# Altium schematic symbol library WCAP-ATG8.SchLib: 195 symbols (part 3 of 3)
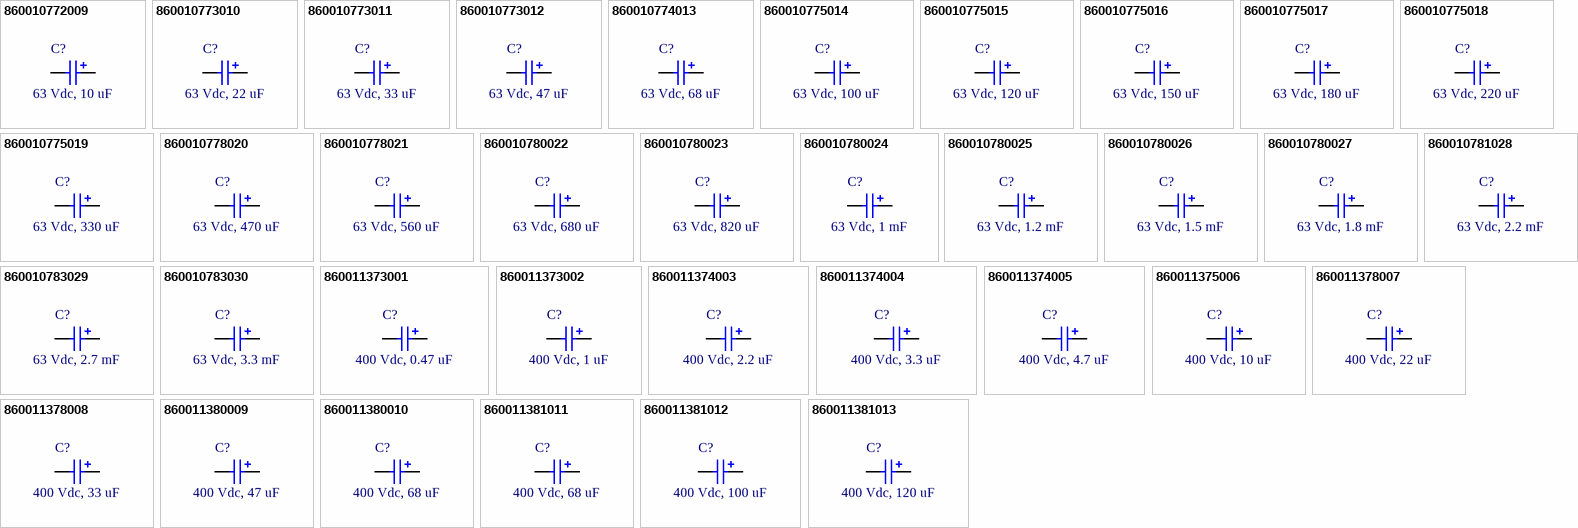
[diagram p6: symbols 860010772009 to 860011381013]

## 860010780023
designator C?, comment 63 Vdc, 820 uF
WCAP-ATG8 Aluminum Electrolytic Capacitors, 16x25mm, 63 Vdc, 820 uF; Part Number: 860010780023; Rated Voltage: 63 Vdc; Value: 820 uF; ComponentLink1Description: Manufacturer; ComponentLink1URL: http://www.we-online.de; ComponentLink2Description: Datasheet; ComponentLink2URL: http://katalog.we-online.de/pbs/datasheet/860010780023.pdf; Published Date: Sep. 2017; Publisher: Wurth Elektronik; Size: 16x25mm; Life Cycle: 2000h; Operating Temperature: -40 °C up to +85 °C
footprint WCAP-ATG8_16x25x7.5
pins: 1 P, 2 N

## 860010780024
designator C?, comment 63 Vdc, 1 mF
WCAP-ATG8 Aluminum Electrolytic Capacitors, 16x25mm, 63 Vdc, 1 mF; Part Number: 860010780024; Rated Voltage: 63 Vdc; Value: 1 mF; ComponentLink1Description: Manufacturer; ComponentLink1URL: http://www.we-online.de; ComponentLink2Description: Datasheet; ComponentLink2URL: http://katalog.we-online.de/pbs/datasheet/860010780024.pdf; Published Date: Sep. 2017; Publisher: Wurth Elektronik; Size: 16x25mm; Life Cycle: 2000h; Operating Temperature: -40 °C up to +85 °C
footprint WCAP-ATG8_16x25x7.5
pins: 1 P, 2 N

## 860010780025
designator C?, comment 63 Vdc, 1.2 mF
WCAP-ATG8 Aluminum Electrolytic Capacitors, 16x31.5mm, 63 Vdc, 1.2 mF; Part Number: 860010780025; Rated Voltage: 63 Vdc; Value: 1.2 mF; ComponentLink1Description: Manufacturer; ComponentLink1URL: http://www.we-online.de; ComponentLink2Description: Datasheet; ComponentLink2URL: http://katalog.we-online.de/pbs/datasheet/860010780025.pdf; Published Date: Sep. 2017; Publisher: Wurth Elektronik; Size: 16x31.5mm; Life Cycle: 2000h; Operating Temperature: -40 °C up to +85 °C
footprint WCAP-ATG8_16x31.5x7.5
pins: 1 P, 2 N

## 860010780026
designator C?, comment 63 Vdc, 1.5 mF
WCAP-ATG8 Aluminum Electrolytic Capacitors, 16x35.5mm, 63 Vdc, 1.5 mF; Part Number: 860010780026; Rated Voltage: 63 Vdc; Value: 1.5 mF; ComponentLink1Description: Manufacturer; ComponentLink1URL: http://www.we-online.de; ComponentLink2Description: Datasheet; ComponentLink2URL: http://katalog.we-online.de/pbs/datasheet/860010780026.pdf; Published Date: Sep. 2017; Publisher: Wurth Elektronik; Size: 16x35.5mm; Life Cycle: 2000h; Operating Temperature: -40 °C up to +85 °C
footprint WCAP-ATG8_16x35.5x7.5
pins: 1 P, 2 N

## 860010780027
designator C?, comment 63 Vdc, 1.8 mF
WCAP-ATG8 Aluminum Electrolytic Capacitors, 16x35.5mm, 63 Vdc, 1.8 mF; Part Number: 860010780027; Rated Voltage: 63 Vdc; Value: 1.8 mF; ComponentLink1Description: Manufacturer; ComponentLink1URL: http://www.we-online.de; ComponentLink2Description: Datasheet; ComponentLink2URL: http://katalog.we-online.de/pbs/datasheet/860010780027.pdf; Published Date: Sep. 2017; Publisher: Wurth Elektronik; Size: 16x35.5mm; Life Cycle: 2000h; Operating Temperature: -40 °C up to +85 °C
footprint WCAP-ATG8_16x35.5x7.5
pins: 1 P, 2 N

## 860010781028
designator C?, comment 63 Vdc, 2.2 mF
WCAP-ATG8 Aluminum Electrolytic Capacitors, 18x35.5mm, 63 Vdc, 2.2 mF; Part Number: 860010781028; Rated Voltage: 63 Vdc; Value: 2.2 mF; ComponentLink1Description: Manufacturer; ComponentLink1URL: http://www.we-online.de; ComponentLink2Description: Datasheet; ComponentLink2URL: http://katalog.we-online.de/pbs/datasheet/860010781028.pdf; Published Date: Sep. 2017; Publisher: Wurth Elektronik; Size: 18x35.5mm; Life Cycle: 2000h; Operating Temperature: -40 °C up to +85 °C
footprint WCAP-ATG8_18x35.5x7.5
pins: 1 P, 2 N

## 860010783029
designator C?, comment 63 Vdc, 2.7 mF
WCAP-ATG8 Aluminum Electrolytic Capacitors, 22x41mm, 63 Vdc, 2.7 mF; Part Number: 860010783029; Rated Voltage: 63 Vdc; Value: 2.7 mF; ComponentLink1Description: Manufacturer; ComponentLink1URL: http://www.we-online.de; ComponentLink2Description: Datasheet; ComponentLink2URL: http://katalog.we-online.de/pbs/datasheet/860010783029.pdf; Published Date: Sep. 2017; Publisher: Wurth Elektronik; Size: 22x41mm; Life Cycle: 2000h; Operating Temperature: -40 °C up to +85 °C
footprint WCAP-ATG8_22x41x10
pins: 1 P, 2 N

## 860010783030
designator C?, comment 63 Vdc, 3.3 mF
WCAP-ATG8 Aluminum Electrolytic Capacitors, 22x41mm, 63 Vdc, 3.3 mF; Part Number: 860010783030; Rated Voltage: 63 Vdc; Value: 3.3 mF; ComponentLink1Description: Manufacturer; ComponentLink1URL: http://www.we-online.de; ComponentLink2Description: Datasheet; ComponentLink2URL: http://katalog.we-online.de/pbs/datasheet/860010783030.pdf; Published Date: Sep. 2017; Publisher: Wurth Elektronik; Size: 22x41mm; Life Cycle: 2000h; Operating Temperature: -40 °C up to +85 °C
footprint WCAP-ATG8_22x41x10
pins: 1 P, 2 N

## 860011373001
designator C?, comment 400 Vdc, 0.47 uF
WCAP-ATG8 Aluminum Electrolytic Capacitors, 6.3x11mm, 400 Vdc, 0.47 uF; Part Number: 860011373001; Rated Voltage: 400 Vdc; Value: 0.47 uF; ComponentLink1Description: Manufacturer; ComponentLink1URL: http://www.we-online.de; ComponentLink2Description: Datasheet; ComponentLink2URL: http://katalog.we-online.de/pbs/datasheet/860011373001.pdf; Published Date: Sep. 2017; Publisher: Wurth Elektronik; Size: 6.3x11mm; Life Cycle: 2000h; Operating Temperature: -25 °C up to +85 °C
footprint WCAP-ATG8_6.3x11x2.5
pins: 1 P, 2 N

## 860011373002
designator C?, comment 400 Vdc, 1 uF
WCAP-ATG8 Aluminum Electrolytic Capacitors, 6.3x11mm, 400 Vdc, 1 uF; Part Number: 860011373002; Rated Voltage: 400 Vdc; Value: 1 uF; ComponentLink1Description: Manufacturer; ComponentLink1URL: http://www.we-online.de; ComponentLink2Description: Datasheet; ComponentLink2URL: http://katalog.we-online.de/pbs/datasheet/860011373002.pdf; Published Date: Sep. 2017; Publisher: Wurth Elektronik; Size: 6.3x11mm; Life Cycle: 2000h; Operating Temperature: -25 °C up to +85 °C
footprint WCAP-ATG8_6.3x11x2.5
pins: 1 P, 2 N

## 860011374003
designator C?, comment 400 Vdc, 2.2 uF
WCAP-ATG8 Aluminum Electrolytic Capacitors, 8x11.5mm, 400 Vdc, 2.2 uF; Part Number: 860011374003; Rated Voltage: 400 Vdc; Value: 2.2 uF; ComponentLink1Description: Manufacturer; ComponentLink1URL: http://www.we-online.de; ComponentLink2Description: Datasheet; ComponentLink2URL: http://katalog.we-online.de/pbs/datasheet/860011374003.pdf; Published Date: Sep. 2017; Publisher: Wurth Elektronik; Size: 8x11.5mm; Life Cycle: 2000h; Operating Temperature: -25 °C up to +85 °C
footprint WCAP-ATG8_8x11.5x3.5
pins: 1 P, 2 N

## 860011374004
designator C?, comment 400 Vdc, 3.3 uF
WCAP-ATG8 Aluminum Electrolytic Capacitors, 8x11.5mm, 400 Vdc, 3.3 uF; Part Number: 860011374004; Rated Voltage: 400 Vdc; Value: 3.3 uF; ComponentLink1Description: Manufacturer; ComponentLink1URL: http://www.we-online.de; ComponentLink2Description: Datasheet; ComponentLink2URL: http://katalog.we-online.de/pbs/datasheet/860011374004.pdf; Published Date: Sep. 2017; Publisher: Wurth Elektronik; Size: 8x11.5mm; Life Cycle: 2000h; Operating Temperature: -25 °C up to +85 °C
footprint WCAP-ATG8_8x11.5x3.5
pins: 1 P, 2 N

## 860011374005
designator C?, comment 400 Vdc, 4.7 uF
WCAP-ATG8 Aluminum Electrolytic Capacitors, 8x11.5mm, 400 Vdc, 4.7 uF; Part Number: 860011374005; Rated Voltage: 400 Vdc; Value: 4.7 uF; ComponentLink1Description: Manufacturer; ComponentLink1URL: http://www.we-online.de; ComponentLink2Description: Datasheet; ComponentLink2URL: http://katalog.we-online.de/pbs/datasheet/860011374005.pdf; Published Date: Sep. 2017; Publisher: Wurth Elektronik; Size: 8x11.5mm; Life Cycle: 2000h; Operating Temperature: -25 °C up to +85 °C
footprint WCAP-ATG8_8x11.5x3.5
pins: 1 P, 2 N

## 860011375006
designator C?, comment 400 Vdc, 10 uF
WCAP-ATG8 Aluminum Electrolytic Capacitors, 10x16mm, 400 Vdc, 10 uF; Part Number: 860011375006; Rated Voltage: 400 Vdc; Value: 10 uF; ComponentLink1Description: Manufacturer; ComponentLink1URL: http://www.we-online.de; ComponentLink2Description: Datasheet; ComponentLink2URL: http://katalog.we-online.de/pbs/datasheet/860011375006.pdf; Published Date: Sep. 2017; Publisher: Wurth Elektronik; Size: 10x16mm; Life Cycle: 2000h; Operating Temperature: -25 °C up to +85 °C
footprint WCAP-ATG8_10x16x5
pins: 1 P, 2 N

## 860011378007
designator C?, comment 400 Vdc, 22 uF
WCAP-ATG8 Aluminum Electrolytic Capacitors, 13x20mm, 400 Vdc, 22 uF; Part Number: 860011378007; Rated Voltage: 400 Vdc; Value: 22 uF; ComponentLink1Description: Manufacturer; ComponentLink1URL: http://www.we-online.de; ComponentLink2Description: Datasheet; ComponentLink2URL: http://katalog.we-online.de/pbs/datasheet/860011378007.pdf; Published Date: Sep. 2017; Publisher: Wurth Elektronik; Size: 13x20mm; Life Cycle: 2000h; Operating Temperature: -25 °C up to +85 °C
footprint WCAP-ATG8_13x20x5
pins: 1 P, 2 N

## 860011378008
designator C?, comment 400 Vdc, 33 uF
WCAP-ATG8 Aluminum Electrolytic Capacitors, 13x25mm, 400 Vdc, 33 uF; Part Number: 860011378008; Rated Voltage: 400 Vdc; Value: 33 uF; ComponentLink1Description: Manufacturer; ComponentLink1URL: http://www.we-online.de; ComponentLink2Description: Datasheet; ComponentLink2URL: http://katalog.we-online.de/pbs/datasheet/860011378008.pdf; Published Date: Sep. 2017; Publisher: Wurth Elektronik; Size: 13x25mm; Life Cycle: 2000h; Operating Temperature: -25 °C up to +85 °C
footprint WCAP-ATG8_13x25x5
pins: 1 P, 2 N

## 860011380009
designator C?, comment 400 Vdc, 47 uF
WCAP-ATG8 Aluminum Electrolytic Capacitors, 16x25mm, 400 Vdc, 47 uF; Part Number: 860011380009; Rated Voltage: 400 Vdc; Value: 47 uF; ComponentLink1Description: Manufacturer; ComponentLink1URL: http://www.we-online.de; ComponentLink2Description: Datasheet; ComponentLink2URL: http://katalog.we-online.de/pbs/datasheet/860011380009.pdf; Published Date: Sep. 2017; Publisher: Wurth Elektronik; Size: 16x25mm; Life Cycle: 2000h; Operating Temperature: -25 °C up to +85 °C
footprint WCAP-ATG8_16x25x7.5
pins: 1 P, 2 N

## 860011380010
designator C?, comment 400 Vdc, 68 uF
WCAP-ATG8 Aluminum Electrolytic Capacitors, 16x35.5mm, 400 Vdc, 68 uF; Part Number: 860011380010; Rated Voltage: 400 Vdc; Value: 68 uF; ComponentLink1Description: Manufacturer; ComponentLink1URL: http://www.we-online.de; ComponentLink2Description: Datasheet; ComponentLink2URL: http://katalog.we-online.de/pbs/datasheet/860011380010.pdf; Published Date: Sep. 2017; Publisher: Wurth Elektronik; Size: 16x35.5mm; Life Cycle: 2000h; Operating Temperature: -25 °C up to +85 °C
footprint WCAP-ATG8_16x35.5x7.5
pins: 1 P, 2 N

## 860011381011
designator C?, comment 400 Vdc, 68 uF
WCAP-ATG8 Aluminum Electrolytic Capacitors, 18x25mm, 400 Vdc, 68 uF; Part Number: 860011381011; Rated Voltage: 400 Vdc; Value: 68 uF; ComponentLink1Description: Manufacturer; ComponentLink1URL: http://www.we-online.de; ComponentLink2Description: Datasheet; ComponentLink2URL: http://katalog.we-online.de/pbs/datasheet/860011381011.pdf; Published Date: Sep. 2017; Publisher: Wurth Elektronik; Size: 18x25mm; Life Cycle: 2000h; Operating Temperature: -25 °C up to +85 °C
footprint WCAP-ATG8_18x25x7.5
pins: 1 P, 2 N

## 860011381012
designator C?, comment 400 Vdc, 100 uF
WCAP-ATG8 Aluminum Electrolytic Capacitors, 18x31.5mm, 400 Vdc, 100 uF; Part Number: 860011381012; Rated Voltage: 400 Vdc; Value: 100 uF; ComponentLink1Description: Manufacturer; ComponentLink1URL: http://www.we-online.de; ComponentLink2Description: Datasheet; ComponentLink2URL: http://katalog.we-online.de/pbs/datasheet/860011381012.pdf; Published Date: Sep. 2017; Publisher: Wurth Elektronik; Size: 18x31.5mm; Life Cycle: 2000h; Operating Temperature: -25 °C up to +85 °C
footprint WCAP-ATG8_18x31.5x7.5
pins: 1 P, 2 N

## 860011381013
designator C?, comment 400 Vdc, 120 uF
WCAP-ATG8 Aluminum Electrolytic Capacitors, 18x41mm, 400 Vdc, 120 uF; Part Number: 860011381013; Rated Voltage: 400 Vdc; Value: 120 uF; ComponentLink1Description: Manufacturer; ComponentLink1URL: http://www.we-online.de; ComponentLink2Description: Datasheet; ComponentLink2URL: http://katalog.we-online.de/pbs/datasheet/860011381013.pdf; Published Date: Sep. 2017; Publisher: Wurth Elektronik; Size: 18x41mm; Life Cycle: 2000h; Operating Temperature: -25 °C up to +85 °C
footprint WCAP-ATG8_18x41x7.5
pins: 1 P, 2 N